# Altium footprint library LED_THT.PcbLib: 2 footprints
Each footprint in its own frame and in the unit in brackets; x right, y up, seen from the top. Pads: shape width x height; smd on the part's side, far side on the other; paste and mask are expansions set on the pad; w line width, h text height; cw(c..) or ccw(c..) is an arc to the next point about the centre after c.
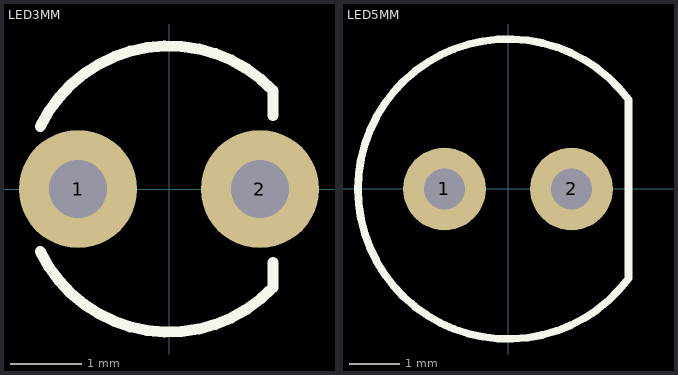
[diagram p0: the footprints below, top view; thin cyan lines are the x and y axes]

## LED3MM [mil]
pads (2):
  round 65 hole 32: 1(-50,0) 2(50,0)
Top Overlay:
  lines w6: -70.82,-34.4 ccw(c0,0.01) 57.13,-54.17 ; -70.82,34.4 cw(c0,-0.01) 57.13,54.17 57.13,40.35 ; 57.13,-54.2 57.13,-40.35
3D body: height 220.47, standoff -137.8, extent -78.73,-78.7 59.06,78.71

## LED5MM [mil]
pads (2):
  round 65 hole 32: 1(-50,0) 2(50,0)
Top Overlay:
  lines w6: 94.84,-70.4 cw(c0,-0.01) 94.84,70.38 94.84,-70.4
3D body: height 484.75, standoff -97.93, extent -117.31,-118.49 96.08,118.5